# EAGLE library part ADM485 (library serial_interfaces)
1/1 Transceiver Half RS422, RS485 8-SOIC
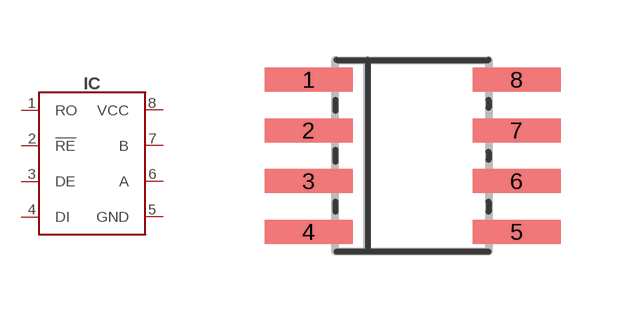
[diagram p5: symbol with the pads of SOIC8-3.9; footprint SOIC8-3.9]

Designator prefix IC

## ADM485-SOIC8 (DIGIKEY#: ADM485ARZ-REELCT-ND; MANF: Analog Devices Inc; MANF#: ADM485ARZ-REEL)  [SOIC8-3.9]
1  RO  out
2  !RE  in
3  DE  in
4  DI  in
5  GND  pwr
6  A
7  B
8  VCC  pwr

## Footprint SOIC8-3.9 (pad centres in mm)
Small Outline IC
smd 2.2 x 0.6: 1 -2.6,1.905; 2 -2.6,0.635; 3 -2.6,-0.635; 4 -2.6,-1.905; 5 2.6,-1.905; 6 2.6,-0.635; 7 2.6,0.635; 8 2.6,1.905